# Altium footprint library DDR4_FOOTPRINT.PcbLib: 1 footprints
Each footprint in its own frame and in the unit in brackets; x right, y up, seen from the top. Pads: shape width x height; smd on the part's side, far side on the other; paste and mask are expansions set on the pad; w line width, h text height; cw(c..) or ccw(c..) is an arc to the next point about the centre after c.
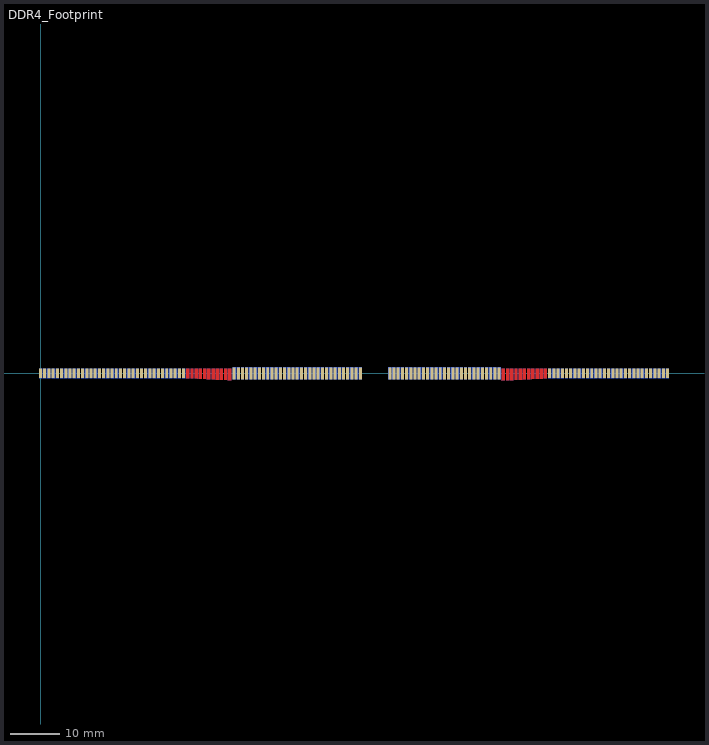
[diagram p0: the footprint, top view; thin cyan lines are the x and y axes]

## DDR4_Footprint [mm]
pads (288):
  rect 0.6x1.9 smd paste+0 mask+0: 0(0,0) 1(0.85,0) 2(1.7,0) 3(2.55,0) 4(3.4,0) 5(4.25,0) 6(5.1,0) 7(5.95,0) 8(6.8,0) 9(7.65,0) 10(8.5,0) 11(9.35,0) 12(10.2,0) 13(11.05,0) 14(11.9,0) 15(12.75,0) 16(13.6,0) 17(14.45,0) 18(15.3,0) 19(16.15,0) 20(17,0) 21(17.85,0) 22(18.7,0) 23(19.55,0) 24(20.4,0) 25(21.25,0) 26(22.1,0) 27(22.95,0) 28(23.8,0) 29(24.65,0) 30(25.5,0) 31(26.35,0) 32(27.2,0) 33(28.05,0) 34(28.9,0) 115(102.85,0) 116(103.7,0) 117(104.55,0) 118(105.4,0) 119(106.25,0) 120(107.1,0) 121(107.95,0) 122(108.8,0) 123(109.65,0) 124(110.5,0) 125(111.35,0) 126(112.2,0) 127(113.05,0) 128(113.9,0) 129(114.75,0) 130(115.6,0) 131(116.45,0) 132(117.3,0) 133(118.15,0) 134(119,0) 135(119.85,0) 136(120.7,0) 137(121.55,0) 138(122.4,0) 139(123.25,0) 140(124.1,0) 141(124.95,0) 142(125.8,0) 143(126.65,0)
  round 0.025 smd paste+0 mask+0: 35(29.75,0) 36(30.6,0) 37(31.45,0) 38(32.3,0) 39(33.15,0) 40(34,0) 41(34.85,0) 42(35.7,0) 43(36.55,0) 44(37.4,0) 45(38.25,0) 104(93.5,0) 105(94.35,0) 106(95.2,0) 107(96.05,0) 108(96.9,0) 109(97.75,0) 110(98.6,0) 111(99.45,0) 112(100.3,0) 113(101.15,0) 114(102,0)
  rect 0.6x2.4 smd paste+0 mask+0: 46(39.1,0) 47(39.95,0) 48(40.8,0) 49(41.65,0) 50(42.5,0) 51(43.35,0) 52(44.2,0) 53(45.05,0) 54(45.9,0) 55(46.75,0) 56(47.6,0) 57(48.45,0) 58(49.3,0) 59(50.15,0) 60(51,0) 61(51.85,0) 62(52.7,0) 63(53.55,0) 64(54.4,0) 65(55.25,0) 66(56.1,0) 67(56.95,0) 68(57.8,0) 69(58.65,0) 70(59.5,0) 71(60.35,0) 72(61.2,0) 73(62.05,0) 74(62.9,0) 75(63.75,0) 76(64.6,0) 77(70.55,0) 78(71.4,0) 79(72.25,0) 80(73.1,0) 81(73.95,0) 82(74.8,0) 83(75.65,0) 84(76.5,0) 85(77.35,0) 86(78.2,0) 87(79.05,0) 88(79.9,0) 89(80.75,0) 90(81.6,0) 91(82.45,0) 92(83.3,0) 93(84.15,0) 94(85,0) 95(85.85,0) 96(86.7,0) 97(87.55,0) 98(88.4,0) 99(89.25,0) 100(90.1,0) 101(90.95,0) 102(91.8,0) 103(92.65,0)
  rect 0.6x1.9 smd far side paste+0 mask+0: 144(0,0) 145(0.85,0) 146(1.7,0) 147(2.55,0) 148(3.4,0) 149(4.25,0) 150(5.1,0) 151(5.95,0) 152(6.8,0) 153(7.65,0) 154(8.5,0) 155(9.35,0) 156(10.2,0) 157(11.05,0) 158(11.9,0) 159(12.75,0) 160(13.6,0) 161(14.45,0) 162(15.3,0) 163(16.15,0) 164(17,0) 165(17.85,0) 166(18.7,0) 167(19.55,0) 168(20.4,0) 169(21.25,0) 170(22.1,0) 171(22.95,0) 172(23.8,0) 173(24.65,0) 174(25.5,0) 175(26.35,0) 176(27.2,0) 177(28.05,0) 178(28.9,0) 259(102.85,0) 260(103.7,0) 261(104.55,0) 262(105.4,0) 263(106.25,0) 264(107.1,0) 265(107.95,0) 266(108.8,0) 267(109.65,0) 268(110.5,0) 269(111.35,0) 270(112.2,0) 271(113.05,0) 272(113.9,0) 273(114.75,0) 274(115.6,0) 275(116.45,0) 276(117.3,0) 277(118.15,0) 278(119,0) 279(119.85,0) 280(120.7,0) 281(121.55,0) 282(122.4,0) 283(123.25,0) 284(124.1,0) 285(124.95,0) 286(125.8,0) 287(126.65,0)
  round 0.025 smd far side paste+0 mask+0: 179(29.75,0) 180(30.6,0) 181(31.45,0) 182(32.3,0) 183(33.15,0) 184(34,0) 185(34.85,0) 186(35.7,0) 187(36.55,0) 188(37.4,0) 189(38.25,0) 248(93.5,0) 249(94.35,0) 250(95.2,0) 251(96.05,0) 252(96.9,0) 253(97.75,0) 254(98.6,0) 255(99.45,0) 256(100.3,0) 257(101.15,0) 258(102,0)
  rect 0.6x2.4 smd far side paste+0 mask+0: 190(39.1,0) 191(39.95,0) 192(40.8,0) 193(41.65,0) 194(42.5,0) 195(43.35,0) 196(44.2,0) 197(45.05,0) 198(45.9,0) 199(46.75,0) 200(47.6,0) 201(48.45,0) 202(49.3,0) 203(50.15,0) 204(51,0) 205(51.85,0) 206(52.7,0) 207(53.55,0) 208(54.4,0) 209(55.25,0) 210(56.1,0) 211(56.95,0) 212(57.8,0) 213(58.65,0) 214(59.5,0) 215(60.35,0) 216(61.2,0) 217(62.05,0) 218(62.9,0) 219(63.75,0) 220(64.6,0) 221(70.55,0) 222(71.4,0) 223(72.25,0) 224(73.1,0) 225(73.95,0) 226(74.8,0) 227(75.65,0) 228(76.5,0) 229(77.35,0) 230(78.2,0) 231(79.05,0) 232(79.9,0) 233(80.75,0) 234(81.6,0) 235(82.45,0) 236(83.3,0) 237(84.15,0) 238(85,0) 239(85.85,0) 240(86.7,0) 241(87.55,0) 242(88.4,0) 243(89.25,0) 244(90.1,0) 245(90.95,0) 246(91.8,0) 247(92.65,0)
Top Layer:
  region: 96.6,-1.283 96.6,0.95 97.2,0.95 97.2,-1.254
  region: 94.05,-1.408 94.05,0.95 94.65,0.95 94.65,-1.379
  region: 94.9,-1.367 94.9,0.95 95.5,0.95 95.5,-1.337
  region: 93.2,-1.45 93.2,0.95 93.8,0.95 93.8,-1.421
  region: 95.75,-1.325 95.75,0.95 96.35,0.95 96.35,-1.296
  region: 97.45,-1.242 97.45,0.95 98.05,0.95 98.05,-1.212
  region: 100,-1.117 100,0.95 100.6,0.95 100.6,-1.087
  region: 98.3,-1.2 98.3,0.95 98.9,0.95 98.9,-1.171
  region: 100.85,-1.075 100.85,0.95 101.45,0.95 101.45,-1.046
  region: 101.7,-1.033 101.7,0.95 102.3,0.95 102.3,-1.004
  region: 99.15,-1.158 99.15,0.95 99.75,0.95 99.75,-1.129
  region: 37.95,-1.367 37.95,0.95 38.55,0.95 38.55,-1.396
  region: 37.1,-1.325 37.1,0.95 37.7,0.95 37.7,-1.354
  region: 36.25,-1.283 36.25,0.95 36.85,0.95 36.85,-1.313
  region: 35.4,-1.242 35.4,0.95 36,0.95 36,-1.271
  region: 34.55,-1.2 34.55,0.95 35.15,0.95 35.15,-1.229
  region: 33.7,-1.158 33.7,0.95 34.3,0.95 34.3,-1.188
  region: 32.85,-1.117 32.85,0.95 33.45,0.95 33.45,-1.146
  region: 32,-1.075 32,0.95 32.6,0.95 32.6,-1.104
  region: 31.15,-1.033 31.15,0.95 31.75,0.95 31.75,-1.063
  region: 30.3,-0.992 30.3,0.95 30.9,0.95 30.9,-1.021
  region: 29.45,-0.95 29.45,0.95 30.05,0.95 30.05,-0.979
Bottom Layer:
  region: 29.45,-0.95 29.45,0.95 30.05,0.95 30.05,-0.979
  region: 30.3,-0.992 30.3,0.95 30.9,0.95 30.9,-1.021
  region: 31.15,-1.033 31.15,0.95 31.75,0.95 31.75,-1.063
  region: 32,-1.075 32,0.95 32.6,0.95 32.6,-1.104
  region: 32.85,-1.117 32.85,0.95 33.45,0.95 33.45,-1.146
  region: 33.7,-1.158 33.7,0.95 34.3,0.95 34.3,-1.188
  region: 34.55,-1.2 34.55,0.95 35.15,0.95 35.15,-1.229
  region: 35.4,-1.242 35.4,0.95 36,0.95 36,-1.271
  region: 36.25,-1.283 36.25,0.95 36.85,0.95 36.85,-1.313
  region: 37.1,-1.325 37.1,0.95 37.7,0.95 37.7,-1.354
  region: 37.95,-1.367 37.95,0.95 38.55,0.95 38.55,-1.396
  region: 93.2,-1.45 93.2,0.95 93.8,0.95 93.8,-1.421
  region: 94.05,-1.408 94.05,0.95 94.65,0.95 94.65,-1.379
  region: 94.9,-1.367 94.9,0.95 95.5,0.95 95.5,-1.337
  region: 95.75,-1.325 95.75,0.95 96.35,0.95 96.35,-1.296
  region: 96.6,-1.283 96.6,0.95 97.2,0.95 97.2,-1.254
  region: 97.45,-1.242 97.45,0.95 98.05,0.95 98.05,-1.212
  region: 98.3,-1.2 98.3,0.95 98.9,0.95 98.9,-1.171
  region: 99.15,-1.158 99.15,0.95 99.75,0.95 99.75,-1.129
  region: 100,-1.117 100,0.95 100.6,0.95 100.6,-1.087
  region: 100.85,-1.075 100.85,0.95 101.45,0.95 101.45,-1.046
  region: 101.7,-1.033 101.7,0.95 102.3,0.95 102.3,-1.004